# EAGLE library part MCP4018T-103E/LT (library MCP4018T_SC70-6)
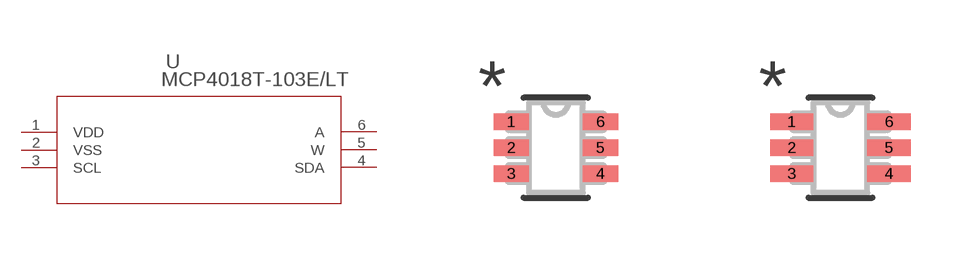
[diagram p0: symbol with the pads of SC70-6_MC_MCH; footprints SC70-6_MC_MCH, SC70-6_MC_MCH-M]

Designator prefix U

## MCP4018T-103E/LTSC70-6_MC_MCH (Copyright: Copyright (C) 2024 Ultra Librarian. All rights reserved.; Manufacturer_Part_Number: MCP4018T-103E/LT; Mfr_Name: Microchip)  [SC70-6_MC_MCH]
1  VDD  pwr
2  VSS  pwr
3  SCL
4  SDA
5  W
6  A

## MCP4018T-103E/LTSC70-6_MC_MCH-M (Copyright: Copyright (C) 2024 Ultra Librarian. All rights reserved.; Manufacturer_Part_Number: MCP4018T-103E/LT; Mfr_Name: Microchip)  [SC70-6_MC_MCH-M]
Pads as for SC70-6_MC_MCH

## MCP4018T-103E/LTSC70-6_MC_MCH-L (Copyright: Copyright (C) 2024 Ultra Librarian. All rights reserved.; Manufacturer_Part_Number: MCP4018T-103E/LT; Mfr_Name: Microchip)  [SC70-6_MC_MCH-L]
Pads as for SC70-6_MC_MCH

## Footprint SC70-6_MC_MCH (pad centres in mm)
smd 0.881 x 0.406: 1 -1.115,0.65; 2 -1.115,0; 3 -1.115,-0.65; 4 1.115,-0.65; 5 1.115,0; 6 1.115,0.65

## Footprint SC70-6_MC_MCH-M (pad centres in mm)
smd 1.084 x 0.406: 1 -1.217,0.65; 2 -1.217,0; 3 -1.217,-0.65; 4 1.217,-0.65; 5 1.217,0; 6 1.217,0.65

## Footprint SC70-6_MC_MCH-L (pad centres in mm)
smd 0.677 x 0.356: 1 -1.014,0.65; 2 -1.014,0; 3 -1.014,-0.65; 4 1.014,-0.65; 5 1.014,0; 6 1.014,0.65